# Altium schematic symbol library mcus.SchLib: 1 symbol
Pins are listed as number, name and electrical type; pins without a type are passive.

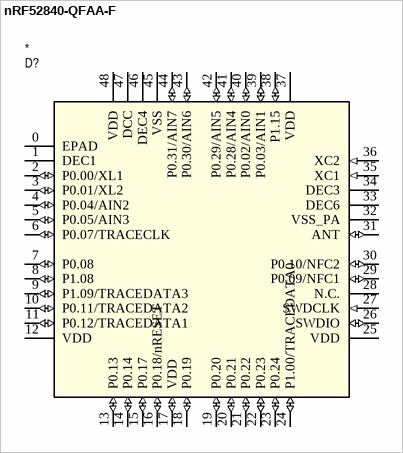
[diagram p0: symbol nRF52840-QFAA-F]

## nRF52840-QFAA-F
designator D?
pins: 0 EPAD (power), 1 DEC1, 2 P0.00/XL1 (io), 3 P0.01/XL2 (io), 4 P0.04/AIN2 (io), 5 P0.05/AIN3 (io), 6 P0.07/TRACECLK (io), 7 P0.08 (io), 8 P1.08 (io), 9 P1.09/TRACEDATA3 (io), 10 P0.11/TRACEDATA2 (io), 11 P0.12/TRACEDATA1 (io), 12 VDD (power), 13 P0.13 (io), 14 P0.14 (io), 15 P0.17 (io), 16 P0.18/nRESET (io), 17 VDD (io), 18 P0.19 (io), 19 P0.20 (io), 20 P0.21 (io), 21 P0.22 (io), 22 P0.23 (io), 23 P0.24 (io), 24 P1.00/TRACEDATA0 (io), 25 VDD (power), 26 SWDIO (io), 27 SWDCLK (in), 28 N.C., 29 P0.09/NFC1 (io), 30 P0.10/NFC2 (io), 31 ANT (io), 32 VSS_PA (power), 33 DEC6 (power), 34 DEC3 (power), 35 XC1 (in), 36 XC2 (in), 37 VDD (power), 38 P1.15 (io), 39 P0.03/AIN1 (io), 40 P0.02/AIN0 (io), 41 P0.28/AIN4 (io), 42 P0.29/AIN5 (io), 43 P0.30/AIN6 (io), 44 P0.31/AIN7 (io), 45 VSS (power), 46 DEC4 (power), 47 DCC (power), 48 VDD (power)